# Altium schematic symbol library MIC5225-3.3YM5-TR.SchLib: 1 symbol
Pins are listed as number, name and electrical type; pins without a type are passive.

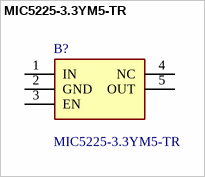
[diagram p0: symbol MIC5225-3.3YM5-TR]

## MIC5225-3.3YM5-TR
designator B?
MICROCHIP - MIC5225-3.3YM5-TR - LDO, REG, 16VIN, 0.15A, 3.3V, 2%, 5SOT23; Geometry.Height: 1.45mm; Mouser Part Number: 998-MIC5225-3.3YM5TR; Mouser Price/Stock: https://www.mouser.co.uk/ProductDetail/Microchip-Technology/MIC5225-3.3YM5-TR?qs=U6T8BxXiZAXmYJ5yRdN5%2Fg%3D%3D; Manufacturer_Name: Microchip; Manufacturer_Part_Number: MIC5225-3.3YM5-TR; Datasheet Link: *
footprint SOT95P280X145-5N
pins: 1 IN, 2 GND, 3 EN, 4 NC, 5 OUT